# Altium integrated library TPS40305DRCT.IntLib: 1 symbol
Pins are listed as number, name and electrical type; pins without a type are passive.

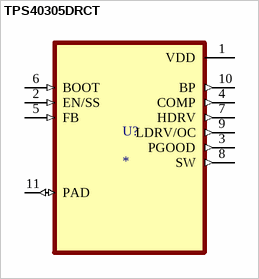
[diagram p0: symbol TPS40305DRCT]

## TPS40305DRCT
designator U?
3-V to 20-V, 25-A, 1.2-MHz synchronous buck controller with FSS; MF: Texas Instruments; MP: TPS40305DRCT; SnapEDA_Link: https://www.snapeda.com/parts/TPS40305DRCT/Texas+Instruments/view-part/?ref=snap; Package: VSON-10 Texas Instruments; Value: *; Check_prices: https://www.snapeda.com/parts/TPS40305DRCT/Texas+Instruments/view-part/?ref=eda
footprint VREG_V62/16624-01YE
pins: 1 VDD (power), 2 EN/SS (in), 3 PGOOD (out), 4 COMP (out), 5 FB (in), 6 BOOT (in), 7 HDRV (out), 8 SW (out), 9 LDRV/OC (out), 10 BP (out), 11 PAD (io)